# EAGLE library part LM2678SX-5.0/NOPB (library CurrentSensing)
24-5v regulator Datasheet <https://4donline.ihs.com/images/VipMasterIC/IC/NATL/NATLS09482/NATLS09482-1.pdf?hkey=EC6BD57738AE6E33B588C5F9AD3CEFA7>
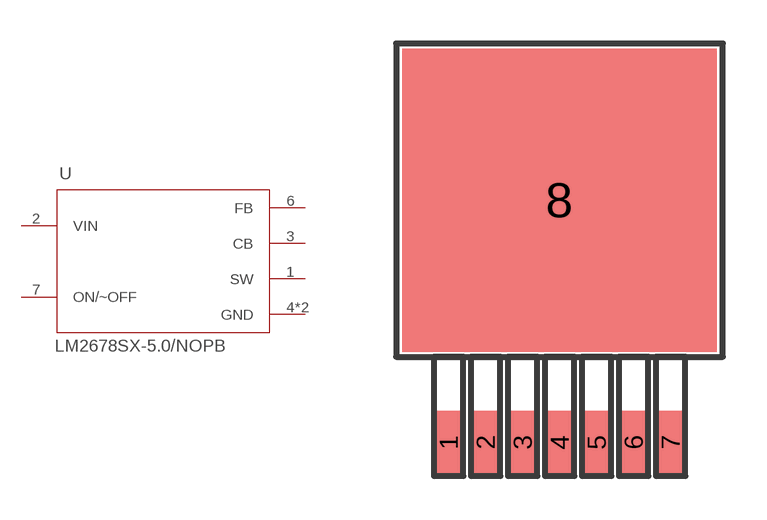
[diagram p2: symbol with the pads of TS7B; footprint TS7B]

Designator prefix U

## LM2678SX-5.0/NOPB  [TS7B]
1  SW  out
2  VIN  in
3  CB  pas
4  GND  pas
6  FB  pas
7  ON/~OFF  pas
8  GND  pas

## Footprint TS7B (pad centres in mm)
Datasheet <https://4donline.ihs.com/images/VipMasterIC/IC/NATL/NATLS09482/NATLS09482-1.pdf?hkey=EC6BD57738AE6E33B588C5F9AD3CEFA7>
smd 0.91 x 2.16: 1 -3.81,-8.32; 2 -2.54,-8.32; 3 -1.27,-8.32; 4 0,-8.32; 5 1.27,-8.32; 6 2.54,-8.32; 7 3.81,-8.32
smd 10.8 x 10.41: 8 0,0